# Altium footprint library LM324AD.PcbLib: 3 footprints
Each footprint in its own frame and in the unit in brackets; x right, y up, seen from the top. Pads: shape width x height; smd on the part's side, far side on the other; paste and mask are expansions set on the pad; w line width, h text height; cw(c..) or ccw(c..) is an arc to the next point about the centre after c.
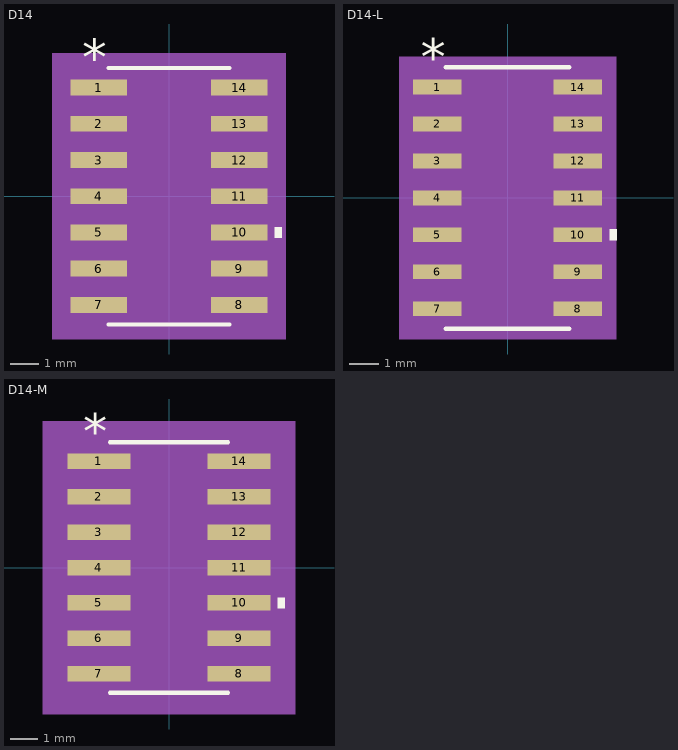
[diagram p0: the footprints below, top view; thin cyan lines are the x and y axes]

## D14 [mil]
pads (14):
  rect 77.56x21.97 smd paste+0 mask+0: 1(-97,150) 2(-97,100) 3(-97,50) 4(-97,0) 5(-97,-50) 6(-97,-100) 7(-97,-150) 8(97,-150) 9(97,-100) 10(97,-50) 11(97,0) 12(97,50) 13(97,100) 14(97,150)
Top Overlay:
  region: 145.78,-42.5 155.78,-42.5 155.78,-57.5 145.78,-57.5
  lines w6: -83.5,-177 83.5,-177 ; -83.5,177 83.5,177
  text "*" at -119.5,166.97 h50
Mechanical 5:
  region: 160.78,-197 -160.78,-197 -160.78,197 160.78,197
Mechanical 13:
  lines w0: -12,172 ccw(c0,172) 12,172
  lines w1: -122,-160 -122,-140 -78.5,-140 -78.5,-160 -122,-160 ; -122,-110 -122,-90 -78.5,-90 -78.5,-110 -122,-110 ; -122,-60 -122,-40 -78.5,-40 -78.5,-60 -122,-60 ; -122,-10 -122,10 -78.5,10 -78.5,-10 -122,-10 ; -122,40 -122,60 -78.5,60 -78.5,40 -122,40 ; -122,90 -122,110 -78.5,110 -78.5,90 -122,90 ; -122,140 -122,160 -78.5,160 -78.5,140 -122,140 ; -78.5,-172 78.5,-172 78.5,172 -78.5,172 -78.5,-172 ; 78.5,-160 78.5,-140 122,-140 122,-160 78.5,-160 ; 78.5,-110 78.5,-90 122,-90 122,-110 78.5,-110 ; 78.5,-60 78.5,-40 122,-40 122,-60 78.5,-60 ; 78.5,-10 78.5,10 122,10 122,-10 78.5,-10 ; 78.5,40 78.5,60 122,60 122,40 78.5,40 ; 78.5,90 78.5,110 122,110 122,90 78.5,90 ; 78.5,140 78.5,160 122,160 122,140 78.5,140
  text "*" at -76,119 h50
Mechanical 15:
  region: -88.5,-170.98 -145.78,-170.98 -145.78,170.98 -88.5,170.98 -88.5,182 88.5,182 88.5,170.98 145.78,170.98 145.78,-170.98 88.5,-170.98 88.5,-182 -88.5,-182
  lines w6: -145.78,-170.98 -145.78,170.98 -88.5,170.98 -88.5,182 88.5,182 88.5,170.98 145.78,170.98 145.78,-170.98 88.5,-170.98 88.5,-182 -88.5,-182 -88.5,-170.98 -145.78,-170.98
3D body "D14.step": height 69.09, standoff 0, extent -122.01,-172.01 122.01,172.01

## D14-L [mil]
pads (14):
  rect 65.75x20 smd paste+0 mask+0: 1(-95.03,150) 2(-95.03,100) 3(-95.03,50) 4(-95.03,0) 5(-95.03,-50) 6(-95.03,-100) 7(-95.03,-150) 8(95.03,-150) 9(95.03,-100) 10(95.03,-50) 11(95.03,0) 12(95.03,50) 13(95.03,100) 14(95.03,150)
Top Overlay:
  region: 137.91,-42.5 147.91,-42.5 147.91,-57.5 137.91,-57.5
  lines w6: -83.5,-177 83.5,-177 ; -83.5,177 83.5,177
  text "*" at -117.53,165 h50
Mechanical 5:
  region: 146.91,-191 -146.91,-191 -146.91,191 146.91,191
Mechanical 13:
  lines w0: -12,172 ccw(c0,172) 12,172
  lines w1: -122,-160 -122,-140 -78.5,-140 -78.5,-160 -122,-160 ; -122,-110 -122,-90 -78.5,-90 -78.5,-110 -122,-110 ; -122,-60 -122,-40 -78.5,-40 -78.5,-60 -122,-60 ; -122,-10 -122,10 -78.5,10 -78.5,-10 -122,-10 ; -122,40 -122,60 -78.5,60 -78.5,40 -122,40 ; -122,90 -122,110 -78.5,110 -78.5,90 -122,90 ; -122,140 -122,160 -78.5,160 -78.5,140 -122,140 ; -78.5,-172 78.5,-172 78.5,172 -78.5,172 -78.5,-172 ; 78.5,-160 78.5,-140 122,-140 122,-160 78.5,-160 ; 78.5,-110 78.5,-90 122,-90 122,-110 78.5,-110 ; 78.5,-60 78.5,-40 122,-40 122,-60 78.5,-60 ; 78.5,-10 78.5,10 122,10 122,-10 78.5,-10 ; 78.5,40 78.5,60 122,60 122,40 78.5,40 ; 78.5,90 78.5,110 122,110 122,90 78.5,90 ; 78.5,140 78.5,160 122,160 122,140 78.5,140
  text "*" at -76,119 h50
Mechanical 15:
  region: -82.5,-164 -131.91,-164 -131.91,164 -82.5,164 -82.5,176 82.5,176 82.5,164 131.91,164 131.91,-164 82.5,-164 82.5,-176 -82.5,-176
  lines w6: -131.91,-164 -131.91,164 -82.5,164 -82.5,176 82.5,176 82.5,164 131.91,164 131.91,-164 82.5,-164 82.5,-176 -82.5,-176 -82.5,-164 -131.91,-164
3D body "D14.step": height 69.09, standoff 0, extent -122.01,-172.01 122.01,172.01

## D14-M [mm]
pads (14):
  rect 2.27x0.558 smd paste+0 mask+0: 1(-2.514,3.81) 2(-2.514,2.54) 3(-2.514,1.27) 4(-2.514,0) 5(-2.514,-1.27) 6(-2.514,-2.54) 7(-2.514,-3.81) 8(2.514,-3.81) 9(2.514,-2.54) 10(2.514,-1.27) 11(2.514,0) 12(2.514,1.27) 13(2.514,2.54) 14(2.514,3.81)
Top Overlay:
  region: 3.903,-1.079 4.157,-1.079 4.157,-1.46 3.903,-1.46
  lines w0.152: -2.121,-4.496 2.121,-4.496 ; -2.121,4.496 2.121,4.496
  text "*" at -3.085,4.241 h1.27
Mechanical 5:
  region: 4.538,-5.258 -4.538,-5.258 -4.538,5.258 4.538,5.258
Mechanical 13:
  lines w0: -0.305,4.369 ccw(c0,4.369) 0.305,4.369
  lines w0.025: -3.099,-4.064 -3.099,-3.556 -1.994,-3.556 -1.994,-4.064 -3.099,-4.064 ; -3.099,-2.794 -3.099,-2.286 -1.994,-2.286 -1.994,-2.794 -3.099,-2.794 ; -3.099,-1.524 -3.099,-1.016 -1.994,-1.016 -1.994,-1.524 -3.099,-1.524 ; -3.099,-0.254 -3.099,0.254 -1.994,0.254 -1.994,-0.254 -3.099,-0.254 ; -3.099,1.016 -3.099,1.524 -1.994,1.524 -1.994,1.016 -3.099,1.016 ; -3.099,2.286 -3.099,2.794 -1.994,2.794 -1.994,2.286 -3.099,2.286 ; -3.099,3.556 -3.099,4.064 -1.994,4.064 -1.994,3.556 -3.099,3.556 ; -1.994,-4.369 1.994,-4.369 1.994,4.369 -1.994,4.369 -1.994,-4.369 ; 1.994,-4.064 1.994,-3.556 3.099,-3.556 3.099,-4.064 1.994,-4.064 ; 1.994,-2.794 1.994,-2.286 3.099,-2.286 3.099,-2.794 1.994,-2.794 ; 1.994,-1.524 1.994,-1.016 3.099,-1.016 3.099,-1.524 1.994,-1.524 ; 1.994,-0.254 1.994,0.254 3.099,0.254 3.099,-0.254 1.994,-0.254 ; 1.994,1.016 1.994,1.524 3.099,1.524 3.099,1.016 1.994,1.016 ; 1.994,2.286 1.994,2.794 3.099,2.794 3.099,2.286 1.994,2.286 ; 1.994,3.556 1.994,4.064 3.099,4.064 3.099,3.556 1.994,3.556
  text "*" at -1.93,3.023 h1.27
Mechanical 15:
  region: -2.502,-4.597 -4.157,-4.597 -4.157,4.597 -2.502,4.597 -2.502,4.877 2.502,4.877 2.502,4.597 4.157,4.597 4.157,-4.597 2.502,-4.597 2.502,-4.877 -2.502,-4.877
  lines w0.152: -4.157,-4.597 -4.157,4.597 -2.502,4.597 -2.502,4.877 2.502,4.877 2.502,4.597 4.157,4.597 4.157,-4.597 2.502,-4.597 2.502,-4.877 -2.502,-4.877 -2.502,-4.597 -4.157,-4.597
3D body "D14.step": height 1.76, standoff 0, extent -3.099,-4.369 3.099,4.369